# Altium footprint library PCB - LEADLESS - SON - INFINEON PG-TSDSON-8-32.PcbLib: 1 footprints
Each footprint in its own frame and in the unit in brackets; x right, y up, seen from the top. Pads: shape width x height; smd on the part's side, far side on the other; paste and mask are expansions set on the pad; w line width, h text height; cw(c..) or ccw(c..) is an arc to the next point about the centre after c.
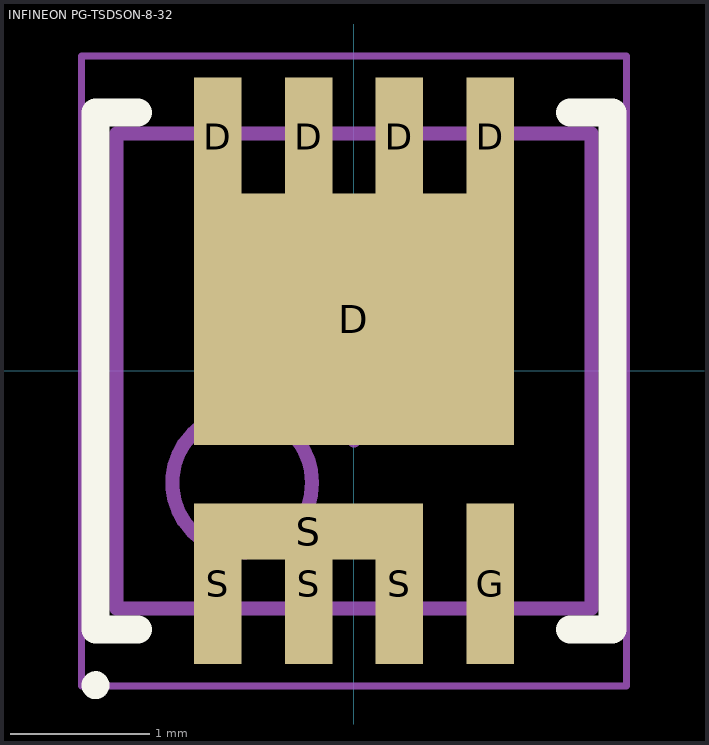
[diagram p0: the footprint, top view; thin cyan lines are the x and y axes]

## INFINEON PG-TSDSON-8-32 [mm] "PG-TSDSON, 8-Leads, Body 3.30x3.30mm, Pitch 0.65mm, Thermal Pad, IPC Medium Density"
height 1
pads (10):
  rect 0.34x0.85 smd paste-2539.97: D(-0.975,1.675) D(-0.325,1.675) D(0.325,1.675) D(0.975,1.675)
  rect 2.29x1.8 smd paste-2539.97: D(0,0.37)
  rect 0.34x1.15 smd paste-2539.97: G(0.975,-1.525) S(-0.975,-1.525) S(-0.325,-1.525) S(0.325,-1.525)
  rect 1.64x0.4 smd paste-2539.97: S(-0.325,-1.15)
Top Overlay:
  circle w0.1: c-1.85,-2.25 r0.05
  lines w0.2: -1.545,-1.85 -1.85,-1.85 -1.85,1.85 -1.545,1.85 ; 1.545,-1.85 1.85,-1.85 1.85,1.85 1.545,1.85
Top Paste:
  rectangle: -1.115,-2.07 -0.835,-1.55
  rectangle: -0.465,-2.07 -0.185,-1.55
  rectangle: 0.185,-2.07 0.465,-1.55
  rectangle: 0.835,-2.07 1.115,-1.12
  rectangle: -1.115,-1.31 0.465,-0.99
  region: -0.835,1.07 -1.115,1.07 -1.115,-0.18 -0.835,-0.18
  rectangle: 0.835,-0.18 1.115,1.07
  rectangle: -0.555,-0.18 0.555,1.07
  rectangle: 0.835,1.315 1.115,2.035
  rectangle: 0.185,1.315 0.465,2.035
  rectangle: -0.465,1.315 -0.185,2.035
  rectangle: -1.115,1.315 -0.835,2.035
Mechanical 13:
  circle w0.1: c-0.8,-0.8 r0.5
  lines w0.1: -1.7,-1.7 -1.7,1.7 1.7,1.7 1.7,-1.7 -1.7,-1.7
Mechanical 15:
  lines w0.05: -1.95,-2.255 -1.95,2.255 1.95,2.255 1.95,-2.255 -1.95,-2.255
  lines w0.1: -0.5,0 0.5,0 ; 0,-0.5 0,0.5
3D body "INFINEON PG-TSDSON-8-32.step": height 1, standoff 0, extent -1.7,-1.701 1.7,1.701